# Altium footprint library IC.PcbLib: 29 footprints (part 2 of 2)
Each footprint in its own frame and in the unit in brackets; x right, y up, seen from the top. Pads: shape width x height; smd on the part's side, far side on the other; paste and mask are expansions set on the pad; w line width, h text height; cw(c..) or ccw(c..) is an arc to the next point about the centre after c.
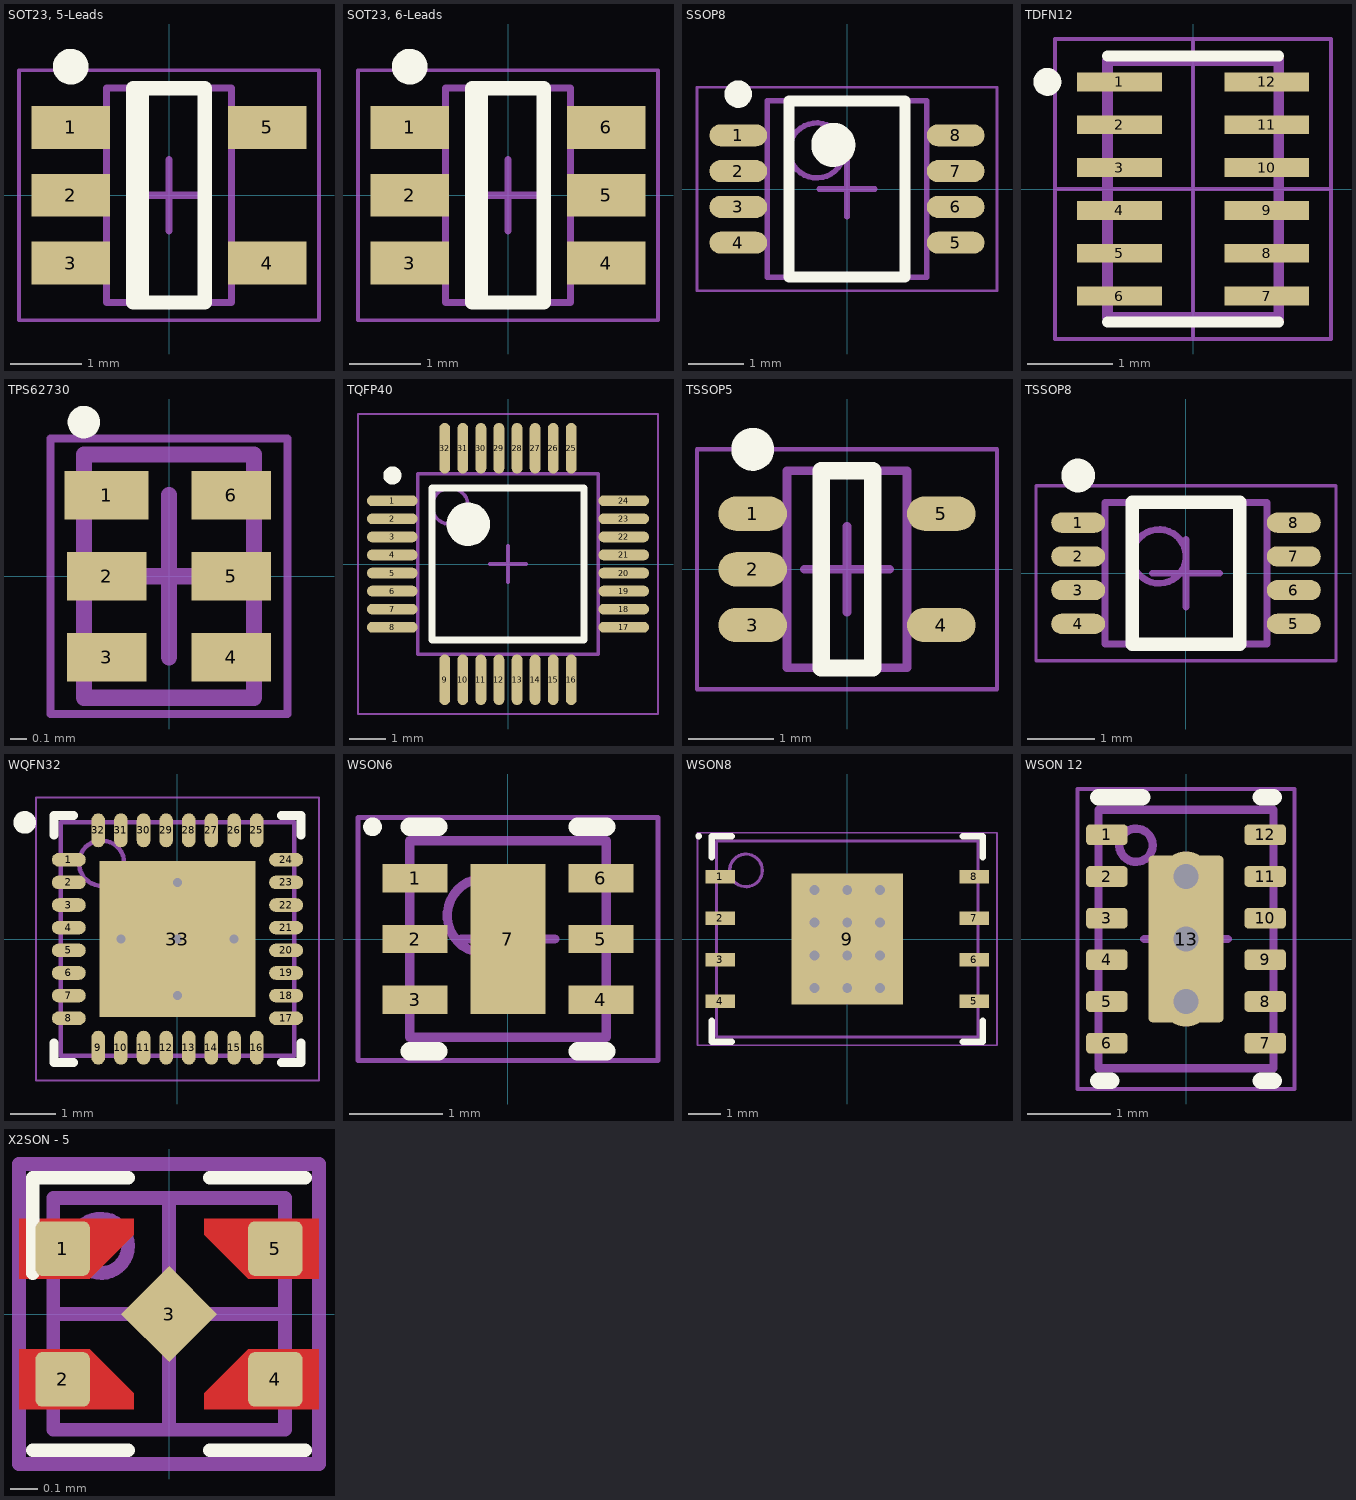
[diagram p1: the footprints below, top view; thin cyan lines are the x and y axes]

## SOT23, 5-Leads [mm] "SOT23, 5-Leads, Body 2.88x2.80mm, Pitch 0.95mm, IPC Medium Density"
height 1.45
pads (5):
  rect 1.1x0.6 smd: 1(-1.375,0.95) 2(-1.375,0) 3(-1.375,-0.95) 4(1.375,-0.95) 5(1.375,0.95)
Top Overlay:
  circle w0.25: c-1.375,1.8 r0.125
  lines w0.2: -0.381,-1.5 -0.381,1.5 ; -0.5,-1.5 0.5,-1.5 0.5,1.5 -0.5,1.5 -0.5,-1.5
Mechanical 13:
  lines w0.1: -0.875,-1.5 -0.875,1.5 0.875,1.5 0.875,-1.5 -0.875,-1.5
Mechanical 15:
  lines w0.05: -2.1,-1.75 -2.1,1.75 2.1,1.75 2.1,-1.75 -2.1,-1.75
  lines w0.1: -0.5,0 0.5,0 ; 0,-0.5 0,0.5
3D body: height 1.45, standoff 0.15, extent -0.875,-1.5 0.875,1.5

## SOT23, 6-Leads [mm] "SOT23, 6-Leads, Body 2.88x2.80mm, Pitch 0.95mm, IPC Medium Density"
height 1.45
pads (6):
  rect 1.1x0.6 smd: 1(-1.375,0.95) 2(-1.375,0) 3(-1.375,-0.95) 4(1.375,-0.95) 5(1.375,0) 6(1.375,0.95)
Top Overlay:
  circle w0.25: c-1.375,1.8 r0.125
  lines w0.2: -0.381,-1.5 -0.381,1.5 ; -0.5,-1.5 -0.5,1.5 0.5,1.5 0.5,-1.5 -0.5,-1.5
Mechanical 13:
  lines w0.1: -0.875,-1.5 0.875,-1.5 0.875,1.5 -0.875,1.5 -0.875,-1.5
Mechanical 15:
  lines w0.05: -2.1,-1.75 2.1,-1.75 2.1,1.75 -2.1,1.75 -2.1,-1.75
  lines w0.1: -0.5,0 0.5,0 ; 0,-0.5 0,0.5
3D body: height 1.45, standoff 0.15, extent -0.875,-1.5 0.875,1.5

## SSOP8 [mm]
height 1.3
pads (8):
  oval 1.05x0.4 smd: 1(-1.975,0.975) 2(-1.975,0.325) 3(-1.975,-0.325) 4(-1.975,-0.975) 5(1.975,-0.975) 6(1.975,-0.325) 7(1.975,0.325) 8(1.975,0.975)
Top Overlay:
  circle w0.4: c-0.25,0.8 r0.2
  circle w0.25: c-1.975,1.725 r0.125
  lines w0.2: -1.05,-1.6 1.05,-1.6 1.05,1.6 -1.05,1.6 -1.05,-1.6
Mechanical 13:
  circle w0.1: c-0.55,0.7 r0.5
  lines w0.1: -1.45,-1.6 1.45,-1.6 1.45,1.6 -1.45,1.6 -1.45,-1.6
Mechanical 15:
  lines w0.05: -2.725,-1.85 2.725,-1.85 2.725,1.85 -2.725,1.85 -2.725,-1.85
  lines w0.1: -0.5,0 0.5,0 ; 0,-0.5 0,0.5
3D body: height 1.3, standoff 0.1, extent -1.45,-1.6 1.45,1.6

## TDFN12 [mm]
pads (12):
  rect 0.99x0.22 smd: 1(-0.86,1.25) 2(-0.86,0.75) 3(-0.86,0.25) 4(-0.86,-0.25) 5(-0.86,-0.75) 6(-0.86,-1.25) 7(0.86,-1.25) 8(0.86,-0.75) 9(0.86,-0.25) 10(0.86,0.25) 11(0.86,0.75) 12(0.86,1.25)
Top Overlay:
  circle w0.175: c-1.7,1.25 r0.075
  lines w0.127: -1,-1.55 1,-1.55 ; -1,1.55 1,1.55
Mechanical 13:
  lines w0.127: -1,-1.5 1,-1.5 1,1.5 -1,1.5 -1,-1.5
Mechanical 15:
  lines w0.05: -1.6,0 1.6,0 ; 0,-1.75 0,1.75
Mechanical 4:
  lines w0.05: -1.61,-1.75 1.61,-1.75 1.61,1.75 -1.61,1.75 -1.61,-1.75
3D body: height 0.6, standoff 0, extent -1,-1.5 1,1.5

## TPS62730 [mm]
pads (6):
  rect 0.52x0.3 smd paste+0 mask+0.05: 1(-0.385,0.5)
  rect 0.49x0.3 smd paste+0 mask+0.05: 2(-0.385,0) 3(-0.385,-0.5) 4(0.385,-0.5) 5(0.385,0) 6(0.385,0.5)
Top Overlay:
  circle w0.1: c-0.525,0.95 r0.05
Mechanical 13:
  lines w0.1: -0.525,-0.75 0.525,-0.75 0.525,0.75 -0.525,0.75 -0.525,-0.75
Mechanical 15:
  lines w0.05: -0.73,-0.85 0.73,-0.85 0.73,0.85 -0.73,0.85 -0.73,-0.85
  lines w0.1: -0.5,0 0.5,0 ; 0,-0.5 0,0.5
3D body: height 0.6, standoff 0, extent -0.525,-0.75 0.525,0.75

## TQFP40 [mm] "TSQFP, 32-Leads, Body 5.00x5.00mm, Pitch 0.50mm, IPC Medium Density"
height 1.2
pads (32):
  oval 1.4x0.3 smd: 1(-3.2,1.75) 2(-3.2,1.25) 3(-3.2,0.75) 4(-3.2,0.25) 5(-3.2,-0.25) 6(-3.2,-0.75) 7(-3.2,-1.25) 8(-3.2,-1.75) 17(3.2,-1.75) 18(3.2,-1.25) 19(3.2,-0.75) 20(3.2,-0.25) 21(3.2,0.25) 22(3.2,0.75) 23(3.2,1.25) 24(3.2,1.75)
  oval 0.3x1.4 smd: 9(-1.75,-3.2) 10(-1.25,-3.2) 11(-0.75,-3.2) 12(-0.25,-3.2) 13(0.25,-3.2) 14(0.75,-3.2) 15(1.25,-3.2) 16(1.75,-3.2) 25(1.75,3.2) 26(1.25,3.2) 27(0.75,3.2) 28(0.25,3.2) 29(-0.25,3.2) 30(-0.75,3.2) 31(-1.25,3.2) 32(-1.75,3.2)
Top Overlay:
  circle w0.6: c-1.1,1.1 r0.3
  circle w0.25: c-3.2,2.45 r0.125
  lines w0.2: -2.1,-2.1 2.1,-2.1 2.1,2.1 -2.1,2.1 -2.1,-2.1
Mechanical 13:
  circle w0.1: c-1.6,1.6 r0.5
  lines w0.1: -2.5,-2.5 2.5,-2.5 2.5,2.5 -2.5,2.5 -2.5,-2.5
Mechanical 15:
  lines w0.05: -4.15,-4.15 4.15,-4.15 4.15,4.15 -4.15,4.15 -4.15,-4.15
  lines w0.1: -0.5,0 0.5,0 ; 0,-0.5 0,0.5
3D body: height 1.2, standoff 0.15, extent -2.5,-2.5 2.5,2.5

## TSSOP5 [mm]
height 1.1
pads (5):
  oval 0.8x0.4 smd: 1(-1.1,0.65) 2(-1.1,0) 3(-1.1,-0.65) 4(1.1,-0.65) 5(1.1,0.65)
Top Overlay:
  circle w0.25: c-1.1,1.4 r0.125
  lines w0.2: -0.3,-1.15 0.3,-1.15 0.3,1.15 -0.3,1.15 -0.3,-1.15
Mechanical 13:
  lines w0.1: -0.7,-1.15 0.7,-1.15 0.7,1.15 -0.7,1.15 -0.7,-1.15
Mechanical 15:
  lines w0.05: -1.75,-1.4 1.75,-1.4 1.75,1.4 -1.75,1.4 -1.75,-1.4
  lines w0.1: -0.5,0 0.5,0 ; 0,-0.5 0,0.5
3D body: height 1.1, standoff 0.15, extent -0.7,-1.15 0.7,1.15

## TSSOP8 [mm] "TSSOP, 8-Leads, Body 2.00x2.30mm, Pitch 0.50mm, IPC Medium Density"
height 0.9
pads (8):
  oval 0.8x0.3 smd: 1(-1.6,0.75) 2(-1.6,0.25) 3(-1.6,-0.25) 4(-1.6,-0.75) 5(1.6,-0.75) 6(1.6,-0.25) 7(1.6,0.25) 8(1.6,0.75)
Top Overlay:
  circle w0.25: c-1.6,1.45 r0.125
  lines w0.2: -0.8,-1.05 -0.8,1.05 0.8,1.05 0.8,-1.05 -0.8,-1.05
Mechanical 13:
  circle w0.1: c-0.4,0.25 r0.4
  lines w0.1: -1.2,-1.05 -1.2,1.05 1.2,1.05 1.2,-1.05 -1.2,-1.05
Mechanical 15:
  lines w0.05: -2.225,-1.3 -2.225,1.3 2.225,1.3 2.225,-1.3 -2.225,-1.3
  lines w0.1: -0.5,0 0.5,0 ; 0,-0.5 0,0.5
3D body: height 0.9, standoff 0.05, extent -1.2,-1.05 1.2,1.05

## WQFN32 [mm]
height 0.8
pads (33):
  oval 0.75x0.3 smd: 1(-2.4,1.75) 2(-2.4,1.25) 3(-2.4,0.75) 4(-2.4,0.25) 5(-2.4,-0.25) 6(-2.4,-0.75) 7(-2.4,-1.25) 8(-2.4,-1.75) 17(2.4,-1.75) 18(2.4,-1.25) 19(2.4,-0.75) 20(2.4,-0.25) 21(2.4,0.25) 22(2.4,0.75) 23(2.4,1.25) 24(2.4,1.75)
  oval 0.3x0.75 smd: 9(-1.75,-2.4) 10(-1.25,-2.4) 11(-0.75,-2.4) 12(-0.25,-2.4) 13(0.25,-2.4) 14(0.75,-2.4) 15(1.25,-2.4) 16(1.75,-2.4) 25(1.75,2.4) 26(1.25,2.4) 27(0.75,2.4) 28(0.25,2.4) 29(-0.25,2.4) 30(-0.75,2.4) 31(-1.25,2.4) 32(-1.75,2.4)
  rect 3.45x3.45 smd: 33(0,0)
via 0,1.25 diameter 0.5 hole 0.2
via -1.25,0 diameter 0.5 hole 0.2
via 0,0 diameter 0.5 hole 0.2
via 1.25,0 diameter 0.5 hole 0.2
via 0,-1.25 diameter 0.5 hole 0.2
Top Overlay:
  circle w0.25: c-3.375,2.575 r0.125
  lines w0.2: -2.725,-2.3 -2.725,-2.725 -2.3,-2.725 ; -2.725,2.3 -2.725,2.725 -2.3,2.725 ; 2.3,-2.725 2.725,-2.725 2.725,-2.3 ; 2.3,2.725 2.725,2.725 2.725,2.3
Top Assembly:
  circle w0.1: c-1.675,1.675 r0.5
  lines w0.1: -2.575,-2.575 -2.575,2.575 2.575,2.575 2.575,-2.575 -2.575,-2.575
Top Courtyard:
  lines w0.05: -3.125,-3.125 -3.125,3.125 3.125,3.125 3.125,-3.125 -3.125,-3.125
  lines w0.1: -0.5,0 0.5,0 ; 0,-0.5 0,0.5
3D body: height 0.8, standoff 0.04, extent -2.575,-2.575 2.575,2.575

## WSON6 [mm] "SON, 6-Leads, Body 2.00x2.00mm, Pitch 0.65mm, Thermal Pad 1.60x0.89mm, IPC Medium Density"
height 0.8
pads (7):
  rect 0.7x0.3 smd: 1(-0.995,0.65) 2(-0.995,0) 3(-0.995,-0.65) 4(0.995,-0.65) 5(0.995,0) 6(0.995,0.65)
  rect 0.8x1.6 smd: 7(0,0)
Top Overlay:
  circle w0.1: c-1.45,1.2 r0.05
  lines w0.2: -1.05,-1.2 -0.745,-1.2 ; -1.05,1.2 -0.745,1.2 ; 0.745,-1.2 1.05,-1.2 ; 0.745,1.2 1.05,1.2
Mechanical 13:
  circle w0.1: c-0.25,0.25 r0.4
  lines w0.1: -1.05,-1.05 1.05,-1.05 1.05,1.05 -1.05,1.05 -1.05,-1.05
Mechanical 15:
  lines w0.05: -1.605,-1.3 -1.605,1.3 1.605,1.3 1.605,-1.3 -1.605,-1.3
  lines w0.1: -0.5,0 0.5,0 ; 0,-0.5 0,0.5
3D body: height 0.8, standoff 0.08, extent -1.05,-1.05 1.05,1.05

## WSON8 [mm] "SON, 8-Leads, Body 6,00x8,00mm, Pitch 1,27mm, Thermal Pad 4,00x3,40mm, IPC Medium Density"
height 0.75
pads (9):
  rect 0.9x0.4 smd: 1(-3.89,1.905) 2(-3.89,0.635) 3(-3.89,-0.635) 4(-3.89,-1.905) 5(3.89,-1.905) 6(3.89,-0.635) 7(3.89,0.635) 8(3.89,1.905)
  rect 3.4x4 smd paste-1.7: 9(0,0)
via 1,-1.5 diameter 0.6 hole 0.305
via 0,-1.5 diameter 0.6 hole 0.305
via -1,-1.5 diameter 0.6 hole 0.305
via 1,-0.5 diameter 0.6 hole 0.305
via 0,-0.5 diameter 0.6 hole 0.305
via -1,-0.5 diameter 0.6 hole 0.305
via 1,0.5 diameter 0.6 hole 0.305
via 0,0.5 diameter 0.6 hole 0.305
via -1,0.5 diameter 0.6 hole 0.305
via 1,1.5 diameter 0.6 hole 0.305
via 0,1.5 diameter 0.6 hole 0.305
via -1,1.5 diameter 0.6 hole 0.305
Top Overlay:
  circle w0.1: c-4.55,3.15 r0.05
  lines w0.2: -4.15,-2.505 -4.15,-3.15 -3.54,-3.15 ; -4.15,2.505 -4.15,3.15 -3.54,3.15 ; 3.54,-3.15 4.15,-3.15 4.15,-2.505 ; 3.54,3.15 4.15,3.15 4.15,2.505
Top Paste:
  rectangle: 0.665,-1.895 1.595,-0.765
  rectangle: 0.665,-0.565 1.595,0.565
  rectangle: 0.665,0.765 1.595,1.895
  rectangle: -0.465,-1.895 0.465,-0.765
  rectangle: -0.465,-0.565 0.465,0.565
  rectangle: -0.465,0.765 0.465,1.895
  rectangle: -1.595,-1.895 -0.665,-0.765
  rectangle: -1.595,-0.565 -0.665,0.565
  rectangle: -1.595,0.765 -0.665,1.895
Mechanical 13:
  circle w0.1: c-3.1,2.1 r0.5
  lines w0.1: -4,-3 4,-3 4,3 -4,3 -4,-3
Mechanical 15:
  lines w0.05: -4.585,-3.25 4.585,-3.25 4.585,3.25 -4.585,3.25 -4.585,-3.25
  lines w0.1: -0.5,0 0.5,0 ; 0,-0.5 0,0.5
3D body "SON127P800X75_HS-9N.step": height 0.75, standoff 0, extent -4.05,-3 4.05,3

## WSON 12 [mm]
pads (13):
  rrect40% 0.5x0.25 smd: 1(-0.95,1.25) 2(-0.95,0.75) 3(-0.95,0.25) 4(-0.95,-0.25) 5(-0.95,-0.75) 6(-0.95,-1.25) 7(0.95,-1.25) 8(0.95,-0.75) 9(0.95,-0.25) 10(0.95,0.25) 11(0.95,0.75) 12(0.95,1.25)
  rrect11% 0.9x2 smd paste-0.45: 13(0,0)
via 0,0 diameter 0.6 hole 0.305
via 0,-0.75 diameter 0.6 hole 0.305
via 0,0.75 diameter 0.6 hole 0.305
Top Overlay:
  lines w0.2: -1.05,-1.7 -0.9,-1.7 ; -1.05,1.7 -0.525,1.7 ; 0.9,-1.7 1.05,-1.7 ; 0.9,1.7 1.05,1.7
Top Paste:
  rectangle: -0.427,-0.894 0.427,0.895
Mechanical 13:
  circle w0.1: c-0.6,1.125 r0.2
  lines w0.1: -1.05,-1.55 1.05,-1.55 1.05,1.55 -1.05,1.55 -1.05,-1.55
Mechanical 15:
  lines w0.05: -1.3,-1.8 -1.3,1.8 1.3,1.8 1.3,-1.8 -1.3,-1.8
  lines w0.1: -0.5,0 0.5,0 ; 0,-0.5 0,0.5
3D body "DSS0012A.stp": height 0.8, standoff 0, extent -1,-1.5 1,1.5

## X2SON - 5 [mm] "SON, 6-Leads, Body 2.00x2.00mm, Pitch 0.65mm, Thermal Pad 1.60x0.89mm, IPC Medium Density"
height 0.8
pads (5):
  rrect25% 0.2x0.2 smd mask+0: 1(-0.39,0.24) 2(-0.39,-0.24) 4(0.39,-0.24) 5(0.39,0.24)
  rect 0.25x0.25 smd rot 45 mask+0.05: 3(0,0)
Top Layer:
  region: -0.55,0.13 -0.55,0.35 -0.13,0.35 -0.13,0.29 -0.29,0.13
  region: 0.55,0.13 0.55,0.35 0.13,0.35 0.13,0.29 0.29,0.13
  region: -0.55,-0.13 -0.55,-0.35 -0.13,-0.35 -0.13,-0.29 -0.29,-0.13
  region: 0.55,-0.13 0.55,-0.35 0.13,-0.35 0.13,-0.29 0.29,-0.13
Top Overlay:
  lines w0.05: -0.5,-0.5 -0.15,-0.5 ; -0.5,0.15 -0.5,0.5 -0.15,0.5 ; 0.15,-0.5 0.5,-0.5 ; 0.15,0.5 0.5,0.5
Mechanical 13:
  circle w0.05: c-0.25,0.25 r0.1
  lines w0.05: -0.425,-0.425 -0.425,0.425 0.425,0.425 0.425,-0.425 -0.425,-0.425
Mechanical 15:
  lines w0.05: -0.425,0 0.425,0 ; 0,-0.425 0,0.425 ; -0.55,-0.55 0.55,-0.55 0.55,0.55 -0.55,0.55 -0.55,-0.55
3D body: height 0.4, standoff 0.05, extent -0.425,-0.425 0.425,0.425